# Altium schematic symbol library HI0805R800R-10.SchLib: 1 symbol
Pins are listed as number, name and electrical type; pins without a type are passive.

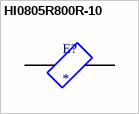
[diagram p0: symbol HI0805R800R-10]

## HI0805R800R-10
designator E?
MF: {'manufacturer': u'Laird-Signal Integrity Products'}; MP: HI0805R800R-10; Package: None; Price: None; Value: *; Availability: Unavailable
footprint FB_HI0805R800R-10
pins: 1, 2